# Altium footprint library LYz.PcbLib: 52 footprints (part 4 of 4)
Each footprint in its own frame and in the unit in brackets; x right, y up, seen from the top. Pads: shape width x height; smd on the part's side, far side on the other; paste and mask are expansions set on the pad; w line width, h text height; cw(c..) or ccw(c..) is an arc to the next point about the centre after c.
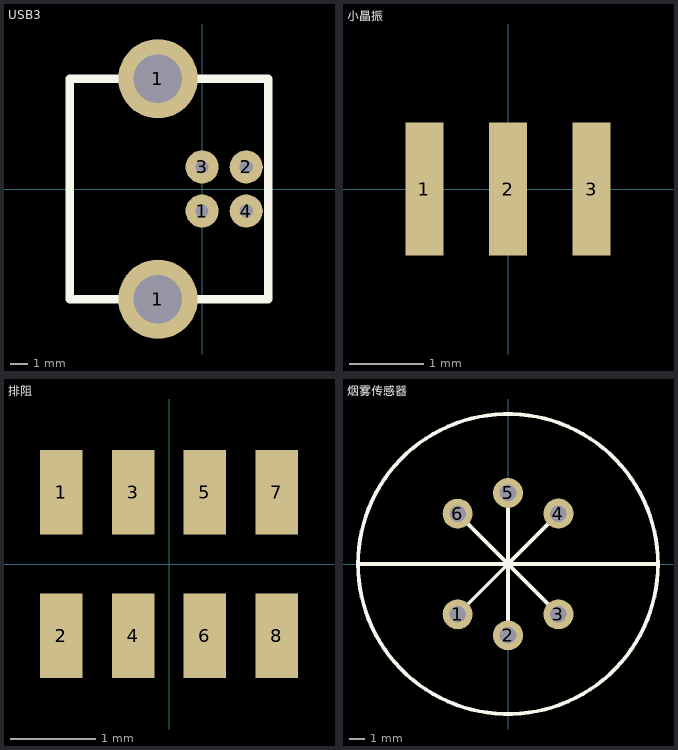
[diagram p3: the footprints below, top view; thin cyan lines are the x and y axes]

## USB3 [mil]
pads (6):
  round 180 hole 110: 1(-100,-250) 1(-100,250)
  round 75 hole 30: 1(0,-50) 2(100,50) 3(0,50) 4(100,-50)
Top Overlay:
  lines w20: -300,-250 -300,250 150,250 150,-250 -300,-250

## 小晶振 [mil]
pads (3):
  rect 20x70 smd: 1(-44,0) 2(0,0) 3(44,0)

## 排阻 [mm]
pads (8):
  rect 0.5x1 smd: 1(-1.27,0.847) 2(-1.27,-0.847) 3(-0.423,0.847) 4(-0.423,-0.847) 5(0.423,0.847) 6(0.423,-0.847) 7(1.27,0.847) 8(1.27,-0.847)

## 烟雾传感器 [mm]
pads (6):
  round 2 hole 1.1: 1(-3.353,-3.353) 2(0,-4.758) 3(3.36,-3.357) 4(3.362,3.362) 5(0,4.738) 6(-3.358,3.358)
Top Overlay:
  circle w0.254: c0,0 r10
  lines w0.254: -9.941,0 10,0 ; -3.358,3.358 3.358,-3.358 ; -3.353,-3.353 3.362,3.362 ; 0,-4.758 0,4.738